# EAGLE library part NA (library relay)
RELAY
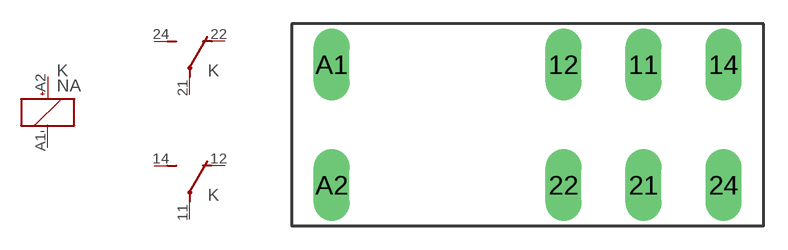
[diagram p30: symbol with the pads of NA; footprint NA]

Designator prefix K; gates 1=K+- 2=U 3=U

## NA  [NA]
11  3:P  pas
12  3:O  pas
14  3:S  pas
21  2:P  pas
22  2:O  pas
24  2:S  pas
A1  1:-  pas
A2  1:+  pas

## Footprint NA (pad centres in mm)
RELAY dummy
drill 1.5 long: 11 20.27,9.04; 12 15.23,9.04; 14 25.31,9.04; 21 20.27,1.46; 22 15.23,1.46; 24 25.31,1.46; A1 0.65,9.04; A2 0.65,1.46